# EAGLE library part VRG_NID100 (library HUM-ASM-001)
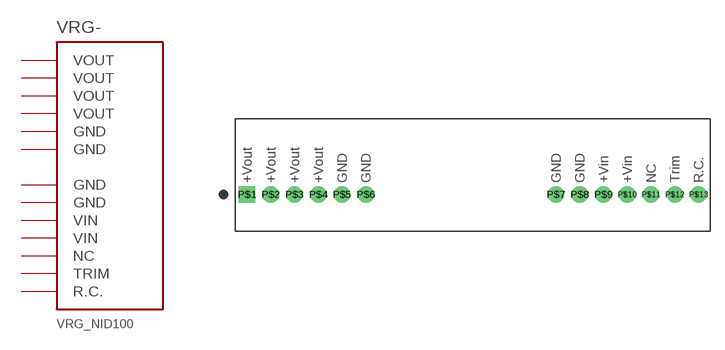
[diagram p11: symbol with the pads of VRG_NID100-X; footprint VRG_NID100-X]

Designator prefix VRG-

## VRG_NID100  [VRG_NID100-X]
P$1  VOUT  pwr
P$2  VOUT  pwr
P$3  VOUT  pwr
P$4  VOUT  pwr
P$5  GND  pwr
P$6  GND  pwr
P$7  GND  pwr
P$8  GND  pwr
P$9  VIN  pwr
P$10  VIN  pwr
P$11  NC  nc
P$12  TRIM  out
P$13  R.C.  in

## Footprint VRG_NID100-X (pad centres in mm)
drill 1 pad 1.778 square: P$1 -24.13,-2
drill 1 pad 1.778: P$2 -21.59,-2; P$3 -19.05,-2; P$4 -16.51,-2; P$5 -13.97,-2; P$6 -11.43,-2; P$7 8.89,-2; P$8 11.43,-2; P$9 13.97,-2; P$10 16.51,-2; P$11 19.05,-2; P$12 21.59,-2; P$13 24.13,-2